# Altium integrated library Integrated_LibraryLukas_New.IntLib: 40 symbols
Pins are listed as number, name and electrical type; pins without a type are passive.

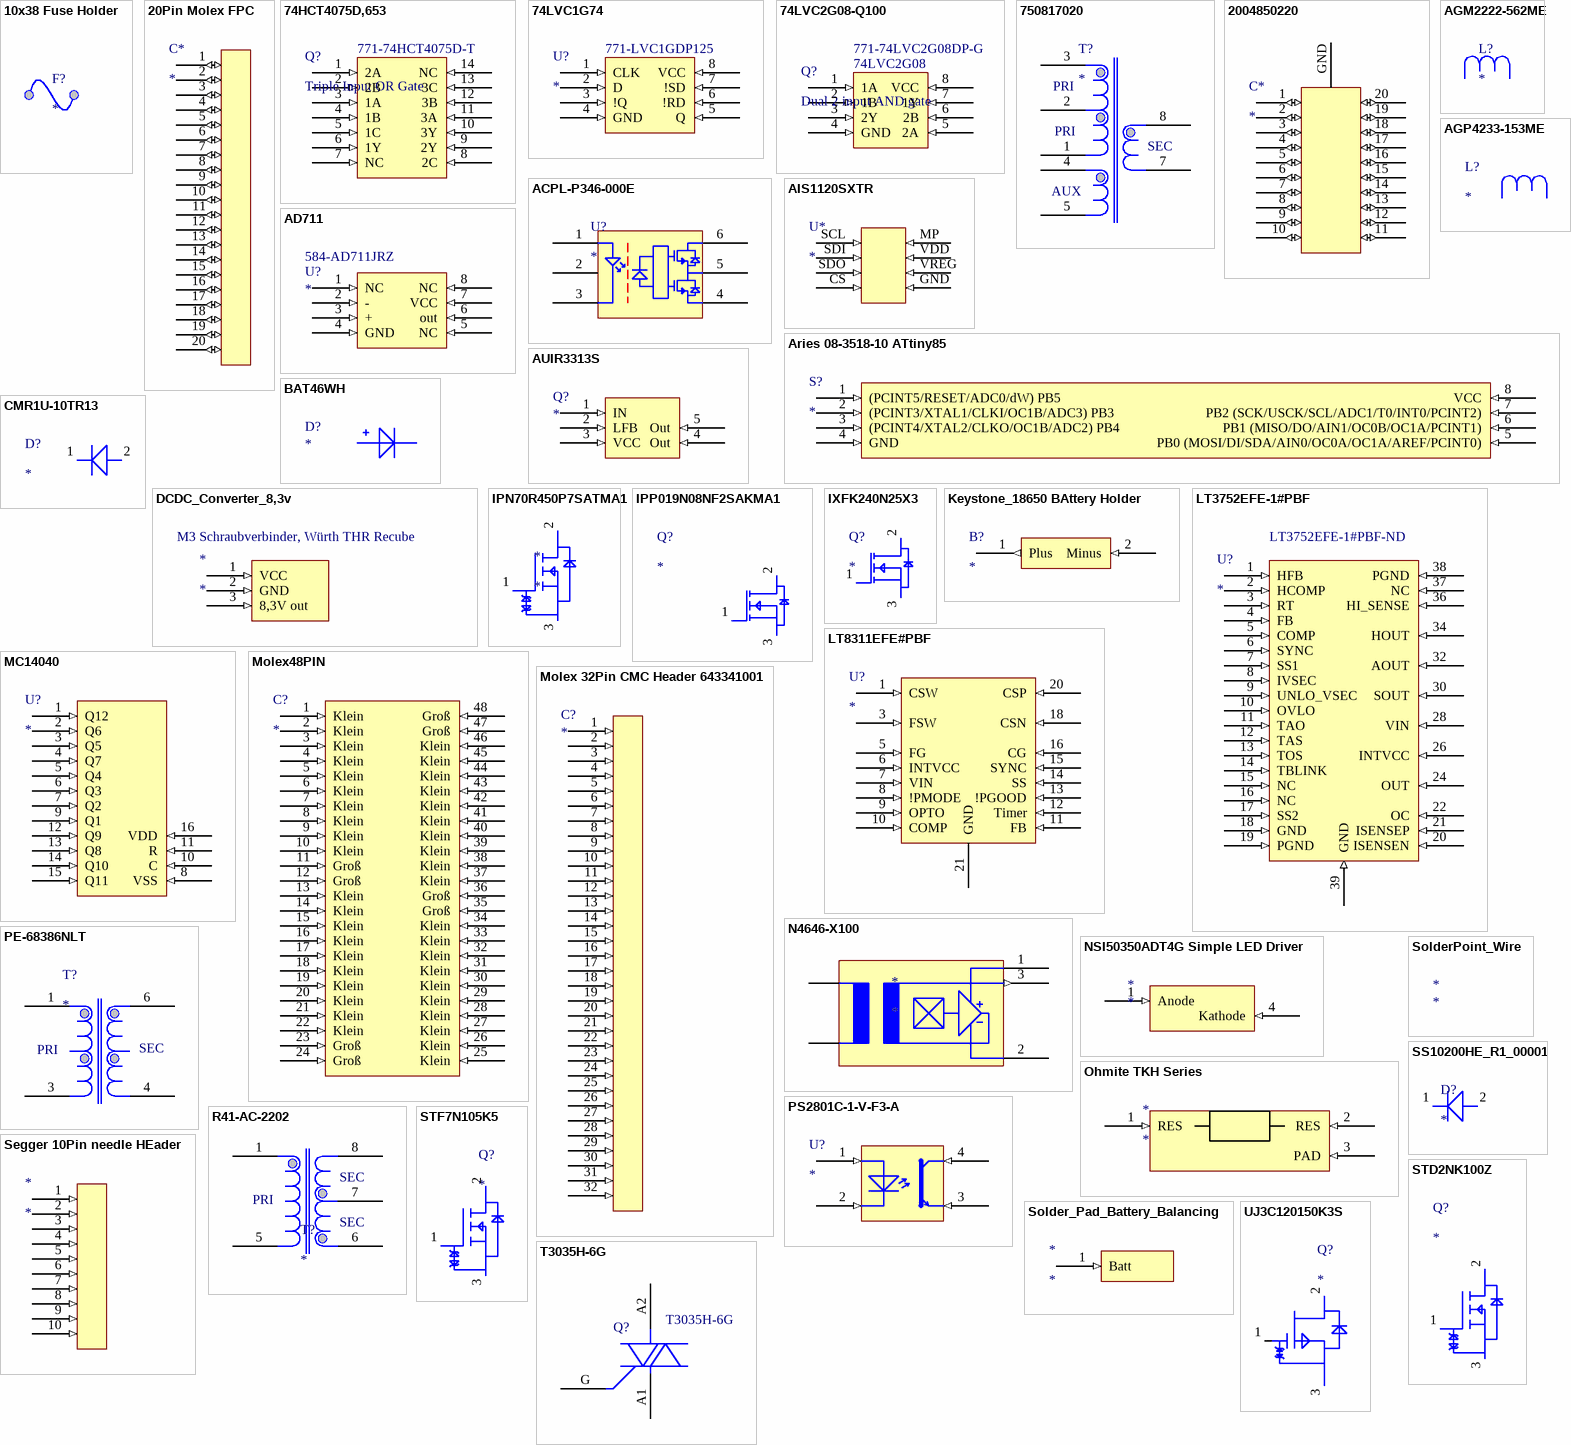
[diagram p0: symbols 10x38 Fuse Holder to UJ3C120150K3S]

## 10x38 Fuse Holder
designator F?
footprint 10x38 Fuse
pins: 1, 2

## 20Pin Molex FPC
designator C*
Flex PCB part for the Molex 20pin FCC
footprint Molex 20 Pin FPC
pins: 1 (io), 2 (io), 3 (io), 4 (io), 5 (io), 6 (io), 7 (io), 8 (io), 9 (io), 10 (io), 11 (io), 12 (io), 13 (io), 14 (io), 15 (io), 16 (io), 17 (io), 18 (io), 19 (io), 20 (io)

## 74HCT4075D,653
designator Q?, comment Triple Input OR Gate  Supplier Part Number 1: 771-74HCT4075D-T
Supplier 1: Mouser
footprint SOIC14; SOIC127P600X175-14N (SOIC, 14-Leads, Body 8,65x3,90mm, Pitch 1,27mm, IPC Medium Density)
pins: 1 2A (in), 2 2B (in), 3 1A (in), 4 1B (in), 5 1C (in), 6 1Y (in), 7 NC (in), 8 2C (in), 9 2Y (in), 10 3Y (in), 11 3A (in), 12 3B (in), 13 3C (in), 14 NC (in)

## 74LVC1G74
designator U?  Supplier Part Number 1: 771-LVC1GDP125
Supplier 1: Mouser
footprint TSSOP8; TSOP65P400X110-8N (TSOP, 8-Leads, Body 3,00x3,00mm, Pitch 0,65mm, IPC Medium Density)
pins: 1 CLK (in), 2 D (in), 3 !Q (in), 4 GND (in), 5 Q (in), 6 !RD (in), 7 !SD (in), 8 VCC (in)

## 74LVC2G08-Q100
designator Q?, comment Dual 2 input AND gate  Supplier Part Number 1: 771-74LVC2G08DP-G
Supplier 1: Mouser
footprint TSSOP8; TSOP65P400X110-8N (TSOP, 8-Leads, Body 3,00x3,00mm, Pitch 0,65mm, IPC Medium Density)
pins: 1 1A (in), 2 1B (in), 3 2Y (in), 4 GND (in), 5 2A (in), 6 2B (in), 7 1Y (in), 8 VCC (in)
text: 74LVC2G08

## 750817020
designator T?
WE Transformer
footprint 750817020 Transformer
pins: 1, 2, 3, 4, 5, 7, 8
text: PRI; SEC; AUX

## 2004850220
designator C*
20Pin Molex FCC
footprint Molex 20Pin FCC
pins: 1 (io), 2 (io), 3 (io), 4 (io), 5 (io), 6 (io), 7 (io), 8 (io), 9 (io), 10 (io), 11 (io), 12 (io), 13 (io), 14 (io), 15 (io), 16 (io), 17 (io), 18 (io), 19 (io), 20 (io), GND

## ACPL-P346-000E
designator U?
Logic IC Output Optocoupler, 1-Element, 3750V Isolation; Manufacturer: Broadcom Avago; Manufacturer Part Number: ACPL-P346-000E; Propagation Delay: 120ns; Number of Channels: 1; Forward Voltage: 1.55V; Max Output Current: 2.5A; Pulse Width Distortion (PWD): 50ns; High Level Output Current: 2A; Operating Supply Voltage: 20V; Forward Current: 4mA; Max Power Dissipation: 550mW; Rise Time: 8ns; Isolation Voltage: 3.75kV; Output Current: 1A; Input Current: 11mA; Max Input Current: 25mA; Approvals: CSA,UR,UL,IEC; Supplier 1: Digi-Key; RoHS: Yes; Category: Optocouplers; Stock 1: 1063; Pricing 1: 1=5,00000, 10=3,53300, 100=2,89340, 500=2,43922, 1000=2,38050 (USD); Mount: Surface Mount; Case/Package: SOIC; Number of Pins: 6; Min Operating Temperature: -40°C; Max Operating Temperature: 105°C; Packaging: Rail/Tube; Package Quantity: 100; Turn-On Delay Time: 120ns; Low Level Output Current: 2A; Fall Time: 8ns; Output Voltage: 20V; Radiation Hardening: No; RoHS Compliant: Yes; REACH SVHC: No SVHC
footprint SOP-6 Stretched (ACPL-P346)
pins: 1, 2, 3, 4, 5, 6

## AD711
designator U?  Supplier Part Number 1: 584-AD711JRZ
Supplier 1: Mouser
footprint SOIC8; SOIC127P600X175-8N (SOIC, 8-Leads, Body 4,90x3,90mm, Pitch 1,27mm, IPC Medium Density)
pins: 1 NC (in), 2 - (in), 3 + (in), 4 GND (in), 5 NC (in), 6 out (in), 7 VCC (in), 8 NC (in)

## AGM2222-562ME
designator L?
Shielded Power Inductors; ComponentLink1Description: Coilcraft; ComponentLink1URL: https://www.coilcraft.com/en-us/products/power/shielded-inductors/high-current-flat-wire/agp-ver/agm2222/?skuId=30439; ComponentLink2Description: Datasheet; ComponentLink2URL: https://www.coilcraft.com/getmedia/d4f4984d-2507-4e11-ae3d-89829a15fb28/agm2222.pdf
footprint AGM2222-562
pins: 1, 2

## AGP4233-153ME
designator L?
Power inductor, shielded, 20% tol, RoHS, halogen-free; Manufacturer: Coilcraft; Manufacturer Part Number: AGP4233-153ME; Inductance: 15uH; RMS Current (Irms): 34A; Saturation Current: 45A; DC Resistance (DCR): 2.95mR; Supplier 1: Mouser; RoHS: Yes; Category: Inductors; Stock 1: 17; Pricing 1: 1=15,62000, 10=15,61000, 50=15,61000, 100=15,61000, 1000=11,98000, 10000=11,98000 (USD); Case/Package: Radial; Inductance Tolerance: 20%; REACH SVHC: Unknown; RoHS Compliant: Yes; ComponentLink1URL: http://www.farnell.com/datasheets/2017963.pdf?src-supplier=Element14; ComponentLink1Description: http://www.farnell.com/datasheets/2017963.pdf?src-supplier=Element14
footprint AGP4233-153ME Landing Pattern (Coilcraft AGP4233 Series 6.8uH-150uH)
pins: 1, 2

## AIS1120SXTR
designator U*
footprint SOIC8; SOIC127P600X175-8N (SOIC, 8-Leads, Body 4,90x3,90mm, Pitch 1,27mm, IPC Medium Density); pin to pad CS>4 GND>5 MP>8 SCL>1 SDI>2 SDO>3 VDD>7 VREG>6
pins: CS (in), GND (in), MP (in), SCL (in), SDI (in), SDO (in), VDD (in), VREG (in)

## Aries 08-3518-10 ATtiny85
designator S?
footprint DIP8 0.3 Center
pins: 1 (PCINT5/RESET/ADC0/dW) PB5 (in), 2 (PCINT3/XTAL1/CLKI/OC1B/ADC3) PB3 (in), 3 (PCINT4/XTAL2/CLKO/OC1B/ADC2) PB4 (in), 4 GND (in), 5 PB0 (MOSI/DI/SDA/AIN0/OC0A/OC1A/AREF/PCINT0) (in), 6 PB1 (MISO/DO/AIN1/OC0B/OC1A/PCINT1) (in), 7 PB2 (SCK/USCK/SCL/ADC1/T0/INT0/PCINT2) (in), 8 VCC (in)

## AUIR3313S
designator Q?
footprint D2PAK5 ;DPAK228P1524X483-5N (D2-PAK, 5-Pads, Body 7,93x8,70mm (max), IPC Medium Density)
pins: 1 IN (in), 2 LFB (in), 3 VCC (in), 4 Out (in), 5 Out (in)

## BAT46WH
designator D?
Supplier 1: Mouser
footprint DIOM2715X18N (Molded Diode, 2-Leads, Body 2,70x1,55mm, IPC Medium Density)
pins: 1, 2

## CMR1U-10TR13
designator D?
Silicon Ultra Fast Recovery Rectifier 1000V 30A 2-Pin SMB Surface Mount T/R; Manufacturer: Central Semiconductor; Manufacturer Part Number: CMR1U-10TR13; Average Rectified Current: 1A; Reverse Recovery Time: 100ns; Max Reverse Voltage (DC): 1kV; Forward Voltage: 1.7V; Max Reverse Current: 5uA; Supplier 1: Digi-Key; RoHS: No; Category: Rectifier Diodes; Pricing 1: 1=1,16000, 10=1,03800, 100=0,80960, 500=0,66880, 1000=0,52800 (USD); Mount: Surface Mount; Case/Package: SMB; Packaging: Tape and Reel; Max Repetitive Reverse Voltage (Vrrm): 1kV; RoHS Compliant: No; Lead Free: Lead Free; ComponentLink1URL: http://www.mouser.com/ds/2/68/cmr1u-01-34700.pdf?src-supplier=Mouser; ComponentLink1Description: http://www.mouser.com/ds/2/68/cmr1u-01-34700.pdf?src-supplier=Mouser; ComponentLink2URL: https://www.centralsemi.com/get_document.php?cmp=1&mergetype=pd&mergepath=pd&pdf_id=CMR1U-01.PDF&src-supplier=Digi-Key; ComponentLink2Description: https://www.centralsemi.com/get_document.php?cmp=1&mergetype=pd&mergepath=pd&pdf_id=CMR1U-01.PDF&src-supplier=Digi-Key; ComponentLink3URL: http://www.centralsemi.com/pdf/CMR1U-01.PDF?src-supplier=Future+Electronics; ComponentLink3Description: http://www.centralsemi.com/pdf/CMR1U-01.PDF?src-supplier=Future+Electronics; ComponentLink4URL: https://my.centralsemi.com/get_document.php?cmp=1&amp;mergetype=pd&amp;mergepath=pd&amp;pdf_id=CMR1U-01.PDF&src-supplier=Digi-Key; ComponentLink4Description: https://my.centralsemi.com/get_document.php?cmp=1&amp;mergetype=pd&amp;mergepath=pd&amp;pdf_id=CMR1U-01.PDF&src-supplier=Digi-Key
footprint DIOC4536X24L CMR1U-10 (Chip Diode, 2-Leads, Body 4,46x3,56mm, IPC High Density)
pins: 1, 2

## DCDC_Converter_8,3v
designator *
footprint DCDC_BR_8,3V
pins: 1 VCC (in), 2 GND (in), 3 8,3V out (in)
text: M3 Schraubverbinder, Würth THR Recube

## IPN70R450P7SATMA1
designator *
IPN70R450P7S Series 700 V 10 A 7.1 W CoolMOS P7 Power Transistor - PG-SOT-223; Manufacturer: Infineon; Manufacturer Part Number: IPN70R450P7SATMA1; Max Dual Supply Voltage: 700V; Supplier 1: Digi-Key; RoHS: Yes; Category: Power Management ICs; Stock 1: 595; Pricing 1: 1=1,00000, 10=0,89700, 100=0,69970, 500=0,57798, 1000=0,50700 (USD); Mount: Surface Mount; Case/Package: SOT-223; Min Operating Temperature: -40°C; Max Operating Temperature: 150°C; Drain to Source Voltage (Vdss): 700V; Lead Free: Contains Lead; Halogen Free: Halogen Free; RoHS Compliant: Yes; ComponentLink1URL: https://www.infineon.com/dgdl/Infineon-IPN70R450P7S-DS-v02_00-EN.pdf?fileId=5546d4625f2e26bc015f526728366b78&src-supplier=Digi-Key; ComponentLink1Description: https://www.infineon.com/dgdl/Infineon-IPN70R450P7S-DS-v02_00-EN.pdf?fileId=5546d4625f2e26bc015f526728366b78&src-supplier=Digi-Key
footprint SOT230P700X180-4L (SOT223, 4-Leads, Body 6,50x7,00mm (avg), Pitch 2,30mm, IPC High Density)
pins: 1, 2, 3

## IPP019N08NF2SAKMA1
designator Q?
Transistor Power MOSFET N-Channel 80V 191A 3-Pin TO-220 Tube; Manufacturer: Infineon; Manufacturer Part Number: IPP019N08NF2SAKMA1; Supplier 1: Digi-Key; RoHS: No; Category: Uncategorized; Stock 1: 760; Pricing 1: 1=3,34000, 10=2,99500, 100=2,45420, 500=2,09760 (USD)
footprint IPP019N08NF2SAKMA1_w_Cooler
pins: 1 (in), 2 (in), 3 (in)

## IXFK240N25X3
designator Q?
Mosfet N-ch 250V 240A TO264; Manufacturer: IXYS; Manufacturer Part Number: IXFK240N25X3; Supplier 1: Mouser; RoHS: No; Stock 1: 7; Pricing 1: 1=30,00000, 10=27,67000, 50=25,40000, 100=24,04000, 1000=24,04000, 10000=24,04000 (USD)
footprint IXFK240N25X3_w_Cooler
pins: 1 (in), 2 (in), 3 (in)

## Keystone_18650 BAttery Holder
designator B?
1042
footprint Keystone_18650_Battery_Holder
pins: 1 Plus (out), 2 Minus (in)

## LT3752EFE-1#PBF
designator U?  Supplier Part Number 1: LT3752EFE-1#PBF-ND
Current Mode PWM Controller 100kHz to 500kHz Automotive 31-Pin TSSOP EP Tube; Manufacturer: Analog Devices / Linear Technology; Manufacturer Part Number: LT3752EFE-1#PBF; Min Supply Voltage: 10.5V; Max Supply Voltage: 16V; Number of Outputs: 1; Max Duty Cycle: 95%; Synchronous Rectifier: Yes; Topology: Forward Converter; Supplier 1: Digi-Key; RoHS: Yes; Category: Voltage Regulators - Switching; Stock 1: 108; Pricing 1: 1=8,12000, 10=7,33800, 25=6,99720, 100=6,07550, 250=5,80244, 500=5,31300 (USD); Case/Package: TSSOP; Number of Pins: 38; Min Operating Temperature: -40°C; Max Operating Temperature: 125°C; Frequency: 500kHz; Packaging: Rail/Tube; Number of Output Phases: 1; Switching Frequency: 500kHz; Clock Sync: Yes; REACH SVHC: No SVHC; RoHS Compliant: Yes; ComponentLink1URL: https://datasheet.ciiva.com/46429/1841069-46429096.pdf?src-supplier=Element14; ComponentLink1Description: https://datasheet.ciiva.com/46429/1841069-46429096.pdf?src-supplier=Element14
footprint TSSOP127P600-8N (TSSOP 38 Lead LT 3752-1 w. missing Leads for Spacing)
pins: 1 HFB (in), 2 HCOMP (in), 3 RT (in), 4 FB (in), 5 COMP (in), 6 SYNC (in), 7 SS1 (in), 8 IVSEC (in), 9 UNLO_VSEC (in), 10 OVLO (in), 11 TAO (in), 12 TAS (in), 13 TOS (in), 14 TBLINK (in), 15 NC (in), 16 NC (in), 17 SS2 (in), 18 GND (in), 19 PGND (in), 20 ISENSEN (in), 21 ISENSEP (in), 22 OC (in), 24 OUT (in), 26 INTVCC (in), 28 VIN (in), 30 SOUT (in), 32 AOUT (in), 34 HOUT (in), 36 HI_SENSE (in), 37 NC (in), 38 PGND (in), 39 GND (in)

## LT8311EFE#PBF
designator U?
LT8311 - Synchronous Rectifier Controller with Opto-Coupler Driver for Forward Converters; Manufacturer: Analog Devices / Linear Technology; Manufacturer Part Number: LT8311EFE#PBF; Operating Supply Current: 4.5mA; Min Supply Voltage: 3.7V; Max Supply Voltage: 30V; Supplier 1: Digi-Key; RoHS: Yes; Category: Gate Drivers; Pricing 1: 1=7,34000, 10=6,63200, 25=6,32360, 100=5,49060, 250=5,24384, 500=4,80150 (USD); Mount: Surface Mount; Case/Package: TSSOP; Number of Pins: 20; Min Operating Temperature: -40°C; Max Operating Temperature: 150°C; Packaging: Rail/Tube; Package Quantity: 74; RoHS Compliant: Yes; REACH SVHC: No SVHC; ComponentLink1URL: https://datasheet.ciiva.com/46423/1810721-46423691.pdf?src-supplier=Element14; ComponentLink1Description: https://datasheet.ciiva.com/46423/1810721-46423691.pdf?src-supplier=Element14; ComponentLink2URL: https://datasheet.ciiva.com/29699/44625-29699311.pdf?src-supplier=Digi-Key; ComponentLink2Description: https://datasheet.ciiva.com/29699/44625-29699311.pdf?src-supplier=Digi-Key
footprint TSSOP 20 Lead LT8311 (TSSOP 20 Lead LT8311 with missing pins for clearance)
pins: 1 CSW (in), 3 FSW (in), 5 FG (in), 6 INTVCC (in), 7 VIN (in), 8 !PMODE (in), 9 OPTO (in), 10 COMP (in), 11 FB (in), 12 Timer (in), 13 !PGOOD (in), 14 SS (in), 15 SYNC (in), 16 CG (in), 18 CSN (in), 20 CSP (in), 21 GND

## MC14040
designator U?
footprint SOIC127P1030X265-16N (SOIC, 16-Leads, Body 10,30x7,50mm, Pitch 1,27mm, IPC Medium Density)
pins: 1 Q12 (in), 2 Q6 (in), 3 Q5 (in), 4 Q7 (in), 5 Q4 (in), 6 Q3 (in), 7 Q2 (in), 8 VSS (in), 9 Q1 (in), 10 C (in), 11 R (in), 12 Q9 (in), 13 Q8 (in), 14 Q10 (in), 15 Q11 (in), 16 VDD (in)

## Molex48PIN
designator C?
footprint Molex 48 Pin Header CMC/CMX
pins: 1 Klein (in), 2 Klein (in), 3 Klein (in), 4 Klein (in), 5 Klein (in), 6 Klein (in), 7 Klein (in), 8 Klein (in), 9 Klein (in), 10 Klein (in), 11 Groß (in), 12 Groß (in), 13 Klein (in), 14 Klein (in), 15 Klein (in), 16 Klein (in), 17 Klein (in), 18 Klein (in), 19 Klein (in), 20 Klein (in), 21 Klein (in), 22 Klein (in), 23 Groß (in), 24 Groß (in), 25 Klein (in), 26 Klein (in), 27 Klein (in), 28 Klein (in), 29 Klein (in), 30 Klein (in), 31 Klein (in), 32 Klein (in), 33 Klein (in), 34 Klein (in), 35 Groß (in), 36 Groß (in), 37 Klein (in), 38 Klein (in), 39 Klein (in), 40 Klein (in), 41 Klein (in), 42 Klein (in), 43 Klein (in), 44 Klein (in), 45 Klein (in), 46 Klein (in), 47 Groß (in), 48 Groß (in)

## Molex 32Pin CMC Header 643341001
designator C?
footprint Molex32Pin CMC Header 643341001
pins: 1 (in), 2 (in), 3 (in), 4 (in), 5 (in), 6 (in), 7 (in), 8 (in), 9 (in), 10 (in), 11 (in), 12 (in), 13 (in), 14 (in), 15 (in), 16 (in), 17 (in), 18 (in), 19 (in), 20 (in), 21 (in), 22 (in), 23 (in), 24 (in), 25 (in), 26 (in), 27 (in), 28 (in), 29 (in), 30 (in), 31 (in), 32 (in)

## N4646-X100
designator *
footprint N4646-X100
pins: 1 V_cc (power), 2 -V_cc (power), 3 I_s (out)

## NSI50350ADT4G Simple LED Driver
designator *
footprint DPAK229P990X238-3N (D-PAK, 3-Pads, Body 6,21x6,73mm (max), IPC Medium Density)
pins: 1 Anode (in), 4 Kathode (in)

## Ohmite TKH Series
designator *
footprint DPAK508P970X91-3N (D-PAK, 3-Pads, Body 9,10x7,51mm (max), IPC Medium Density)
pins: 1 RES (in), 2 RES (in), 3 PAD (in)

## PE-68386NLT
designator T?
Pulse Transformer 1: 1 1500VDC 0.6Ohm Prim. DCR 0.6Ohm Sec. DCR 6 Terminal SMD Automotive; Manufacturer Part Number: PE-68386NLT; Turns Ratio: 1:1; DC Resistance (DCR): 600mR; Shielding: Unshielded; Supplier 1: Digi-Key; Manufacturer: Pulse; RoHS: Yes; Category: Transformers; Stock 1: 13846; Pricing 1: 1=2,70000, 10=2,16000, 25=1,75520, 50=1,71000, 100=1,66500, 250=1,62000, 500=1,60650 (USD); Mount: Surface Mount; Number of Pins: 6; Weight: 0.009877oz; Min Operating Temperature: -40°C; Max Operating Temperature: 130°C; Packaging: Tape and Reel; Package Quantity: 1500; Termination: SMD/SMT; Series: *; Primary Impedance: 600mR; Secondary Impedance: 600mR; Length: 6.73mm; Width: 6.7mm; Height: 2.5mm; Depth: 8.64mm; Radiation Hardening: No; RoHS Compliant: Yes; ComponentLink1URL: https://datasheet.ciiva.com/29632/spm2007-61-29632613.pdf?src-supplier=Digi-Key; ComponentLink1Description: https://datasheet.ciiva.com/29632/spm2007-61-29632613.pdf?src-supplier=Digi-Key; ComponentLink2URL: https://datasheet.ciiva.com/29632/+spm2007-61-29632614.pdf?src-supplier=Digi-Key; ComponentLink2Description: https://datasheet.ciiva.com/29632/+spm2007-61-29632614.pdf?src-supplier=Digi-Key; ComponentLink3URL: https://datasheet.ciiva.com/2939/+spm2007-61-2939805.pdf?src-supplier=Digi-Key; ComponentLink3Description: https://datasheet.ciiva.com/2939/+spm2007-61-2939805.pdf?src-supplier=Digi-Key
footprint PE-68386NL Landing Pattern
pins: 1, 3, 4, 6
text: PRI; SEC

## PS2801C-1-V-F3-A
designator U?
Optocoupler DC-IN 1-CH Transistor DC-OUT 4-Pin SSOP Embossed T/R; Manufacturer: CEL; Manufacturer Part Number: PS2801C-1-V-F3-A; Collector Emitter Voltage (VCEO): 300mV; Input Type: DC; Number of Channels: 1; Output Voltage: 80V; Output Current per Channel: 30mA; Supplier 1: Digi-Key; RoHS: Yes; Category: Optocouplers; Mount: Surface Mount; Case/Package: SOIC; Packaging: Tape and Reel; Package Quantity: 3500; Series: NEPOC; Collector-emitter Voltage-Max: 300mV; Lead Free: Lead Free; ComponentLink1URL: https://datasheet.ciiva.com/2088/ps2801c-1-ps2801c-4-2088034.pdf?src-supplier=Digi-Key; ComponentLink1Description: https://datasheet.ciiva.com/2088/ps2801c-1-ps2801c-4-2088034.pdf?src-supplier=Digi-Key
footprint SSOP127P700X200-4L (SSOP, 4-Leads, Body 2,70x4,40mm, Pitch 1,27mm, IPC High Density)
pins: 1 (in), 2 (in), 3 (in), 4 (in)

## R41-AC-2202
designator T?
High Voltage Transformer
footprint R41-AC-2202 Landing Pattern
pins: 1, 5, 6, 7, 8
text: SEC; PRI

## Segger 10Pin needle HEader
designator *
footprint JTAG Needle Header
pins: 1 (in), 2 (in), 3 (in), 4 (in), 5 (in), 6 (in), 7 (in), 8 (in), 9 (in), 10 (in)

## Solder_Pad_Battery_Balancing
designator *
footprint Solder_Pad_Battery_Balancing
pins: 1 Batt (in)

## SolderPoint_Wire
designator *

## SS10200HE_R1_00001
designator D?
Schottky 1A 200V SOD-123HE; Manufacturer: Pan Jit; Manufacturer Part Number: SS10200HE_R1_00001; Supplier 1: DigiKey; RoHS: Yes; Stock 1: 9000; Pricing 1: 1=0,40000, 10=0,30100, 100=0,17040, 500=0,11286, 1000=0,08653 (USD)
footprint Chip2PinSM127P600-8N (SS10200HE landing Pattern)
pins: 1, 2

## STD2NK100Z
designator Q?
N-channel 1000 V, 6.25 Ohm typ., 1.85 A, Zener-protected SuperMESH Power MOSFET in DPAK package; Manufacturer: STMicroelectronics; Manufacturer Part Number: STD2NK100Z; Continuous Drain Current (ID): 1.85A; Gate to Source Voltage (Vgs): 30V; Rds On Max: 8.5R; Input Capacitance: 499pF; Max Power Dissipation: 70W; Number of Elements: 1; Drain to Source Voltage (Vdss): 1kV; Threshold Voltage: 3.75V; Turn-On Delay Time: 7.2ns; Turn-Off Delay Time: 41.5ns; Element Configuration: Single; Supplier 1: Digi-Key; RoHS: Yes; Category: MOSFETs; Stock 1: 2365; Pricing 1: 1=2,45000, 10=2,19600, 100=1,76550, 500=1,45048, 1000=1,31862 (USD); Mount: Surface Mount; Case/Package: DPAK; Number of Pins: 3; Contact Plating: Tin,Matte; Min Operating Temperature: -55°C; Max Operating Temperature: 150°C; Packaging: Tape and Reel; Package Quantity: 2500; Drain to Source Breakdown Voltage: 1kV; Drain to Source Resistance: 8.5R; Power Dissipation: 70W; On-State Resistance: 8.5R; Polarity: N-CHANNEL; Series: SuperMESH™; Drain-source On Resistance-Max: 8.5R; Length: 6.6mm; Width: 6.2mm; Height: 2.4mm; Radiation Hardening: No; REACH SVHC: No SVHC; Lead Free: Lead Free; RoHS Compliant: Yes; ComponentLink1URL: https://datasheet.ciiva.com/8025/1561863-8025045.pdf?src-supplier=Element14; ComponentLink1Description: https://datasheet.ciiva.com/8025/1561863-8025045.pdf?src-supplier=Element14; ComponentLink2URL: https://datasheet.ciiva.com/25625/0900766b810e895b-25625259.pdf?src-supplier=RSComponents; ComponentLink2Description: https://datasheet.ciiva.com/25625/0900766b810e895b-25625259.pdf?src-supplier=RSComponents; ComponentLink3URL: https://datasheet.ciiva.com/938/cd00159991-938647.pdf?src-supplier=Digi-Key; ComponentLink3Description: https://datasheet.ciiva.com/938/cd00159991-938647.pdf?src-supplier=Digi-Key; ComponentLink4URL: https://datasheet.ciiva.com/6380/cd00159991-6380217.pdf?src-supplier=Digi-Key; ComponentLink4Description: https://datasheet.ciiva.com/6380/cd00159991-6380217.pdf?src-supplier=Digi-Key; ComponentLink5URL: https://datasheet.ciiva.com/16220/cd00159991-16220233.pdf?src-supplier=Future+Electronics; ComponentLink5Description: https://datasheet.ciiva.com/16220/cd00159991-16220233.pdf?src-supplier=Future+Electronics; ComponentLink6URL: https://datasheet.ciiva.com/6380/cd00159991-6380219.pdf?src-supplier=Digi-Key; ComponentLink6Description: https://datasheet.ciiva.com/6380/cd00159991-6380219.pdf?src-supplier=Digi-Key
footprint DPAK TO-252 (DPAK High density)
pins: 1, 2, 3

## STF7N105K5
designator Q?
N-channel 1050 V, 1.4 Ohm typ., 4 A MDmesh K5 Power MOSFETs in TO-220FP package; Manufacturer: STMicroelectronics; Manufacturer Part Number: STF7N105K5; Drain to Source Voltage (Vdss): 1.05kV; Continuous Drain Current (ID): 4A; Rds On Max: 2R; Input Capacitance: 380pF; Max Power Dissipation: 25W; Supplier 1: Newark; RoHS: Yes; Category: MOSFETs; Stock 1: 996; Pricing 1: 1=3,16000, 10=2,71000, 100=2,16000, 500=1,87000, 1000=1,61000 (USD); Mount: Through Hole; Case/Package: TO-220-3; Min Operating Temperature: -55°C; Max Operating Temperature: 150°C; Packaging: Rail/Tube; Lead Free: Lead Free; RoHS Compliant: Yes; ComponentLink1URL: http://www.mouser.com/ds/2/389/stf7n105k5-955843.pdf?src-supplier=Mouser; ComponentLink1Description: http://www.mouser.com/ds/2/389/stf7n105k5-955843.pdf?src-supplier=Mouser; ComponentLink2URL: http://www.st.com/content/ccc/resource/technical/document/datasheet/26/20/d1/f7/b4/c1/4c/55/DM00112886.pdf/files/DM00112886.pdf/jcr:content/translations/en.DM00112886.pdf?src-supplier=Digi-Key; ComponentLink2Description: http://www.st.com/content/ccc/resource/technical/document/datasheet/26/20/d1/f7/b4/c1/4c/55/DM00112886.pdf/files/DM00112886.pdf/jcr:content/translations/en.DM00112886.pdf?src-supplier=Digi-Key; ComponentLink3URL: http://www.st.com/st-web-ui/static/active/en/resource/technical/document/datasheet/DM00112886.pdf?src-supplier=Avnet; ComponentLink3Description: http://www.st.com/st-web-ui/static/active/en/resource/technical/document/datasheet/DM00112886.pdf?src-supplier=Avnet; ComponentLink4URL: http://www.farnell.com/datasheets/2371890.pdf?src-supplier=Newark; ComponentLink4Description: http://www.farnell.com/datasheets/2371890.pdf?src-supplier=Newark
footprint TO-220-3
pins: 1, 2, 3

## T3035H-6G
designator Q?  (value not drawn)
T3035H Series 600 V 30 A Surface Mount Snubberless Triac - D2PAK; Manufacturer: STMicroelectronics; Manufacturer Part Number: T3035H-6G; RMS Current (Irms): 30A; Hold Current: 60mA; Element Configuration: Single; Supplier 1: RSComponents; RoHS: Yes; Category: Thyristors; Stock 1: 1; Pricing 1: 50=2,82800 (USD); Mount: Surface Mount; Case/Package: TO-263-3; Min Operating Temperature: -40°C; Max Operating Temperature: 150°C; Packaging: Rail/Tube; ComponentLink1URL: http://www.st.com/content/ccc/resource/technical/document/datasheet/dd/1f/f0/f9/65/95/4d/32/CD00263568.pdf/files/CD00263568.pdf/jcr:content/translations/en.CD00263568.pdf?src-supplier=Digi-Key; ComponentLink1Description: http://www.st.com/content/ccc/resource/technical/document/datasheet/dd/1f/f0/f9/65/95/4d/32/CD00263568.pdf/files/CD00263568.pdf/jcr:content/translations/en.CD00263568.pdf?src-supplier=Digi-Key; Supplier Part Number 1: 1920655
footprint DPAK254P1542X460-3N (D2-PAK, 3-Pads, Body 7,78x8,50mm (max), IPC Medium Density); pin to pad A1>1 A2>4 G>3
pins: A1, A2, G

## UJ3C120150K3S
designator Q?
Sicfet N-ch 1200V 18.4A TO247-3; Manufacturer: UnitedSiC; Manufacturer Part Number: UJ3C120150K3S; Supplier 1: Mouser; RoHS: No; Stock 1: 697; Pricing 1: 1=9,16000, 10=8,28000, 50=7,90000, 100=7,90000, 1000=5,96000, 10000=5,15000 (USD)
footprint UJ3C120150K3S_w_cooler
pins: 1, 2, 3